# Altium schematic symbol library GENERIC_L_mechanical.Schlib: 1 symbol
Pins are listed as number, name and electrical type; pins without a type are passive.

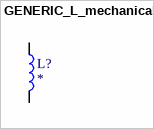
[diagram p0: symbol GENERIC_L_mechanical]

## GENERIC_L_mechanical
designator L?  (mechanical)
Inductor
pins: 1, 2